# Altium schematic symbol library nRF52-Intro.SCHLIB: 84 symbols (part 1 of 2)
Pins are listed as number, name and electrical type; pins without a type are passive.

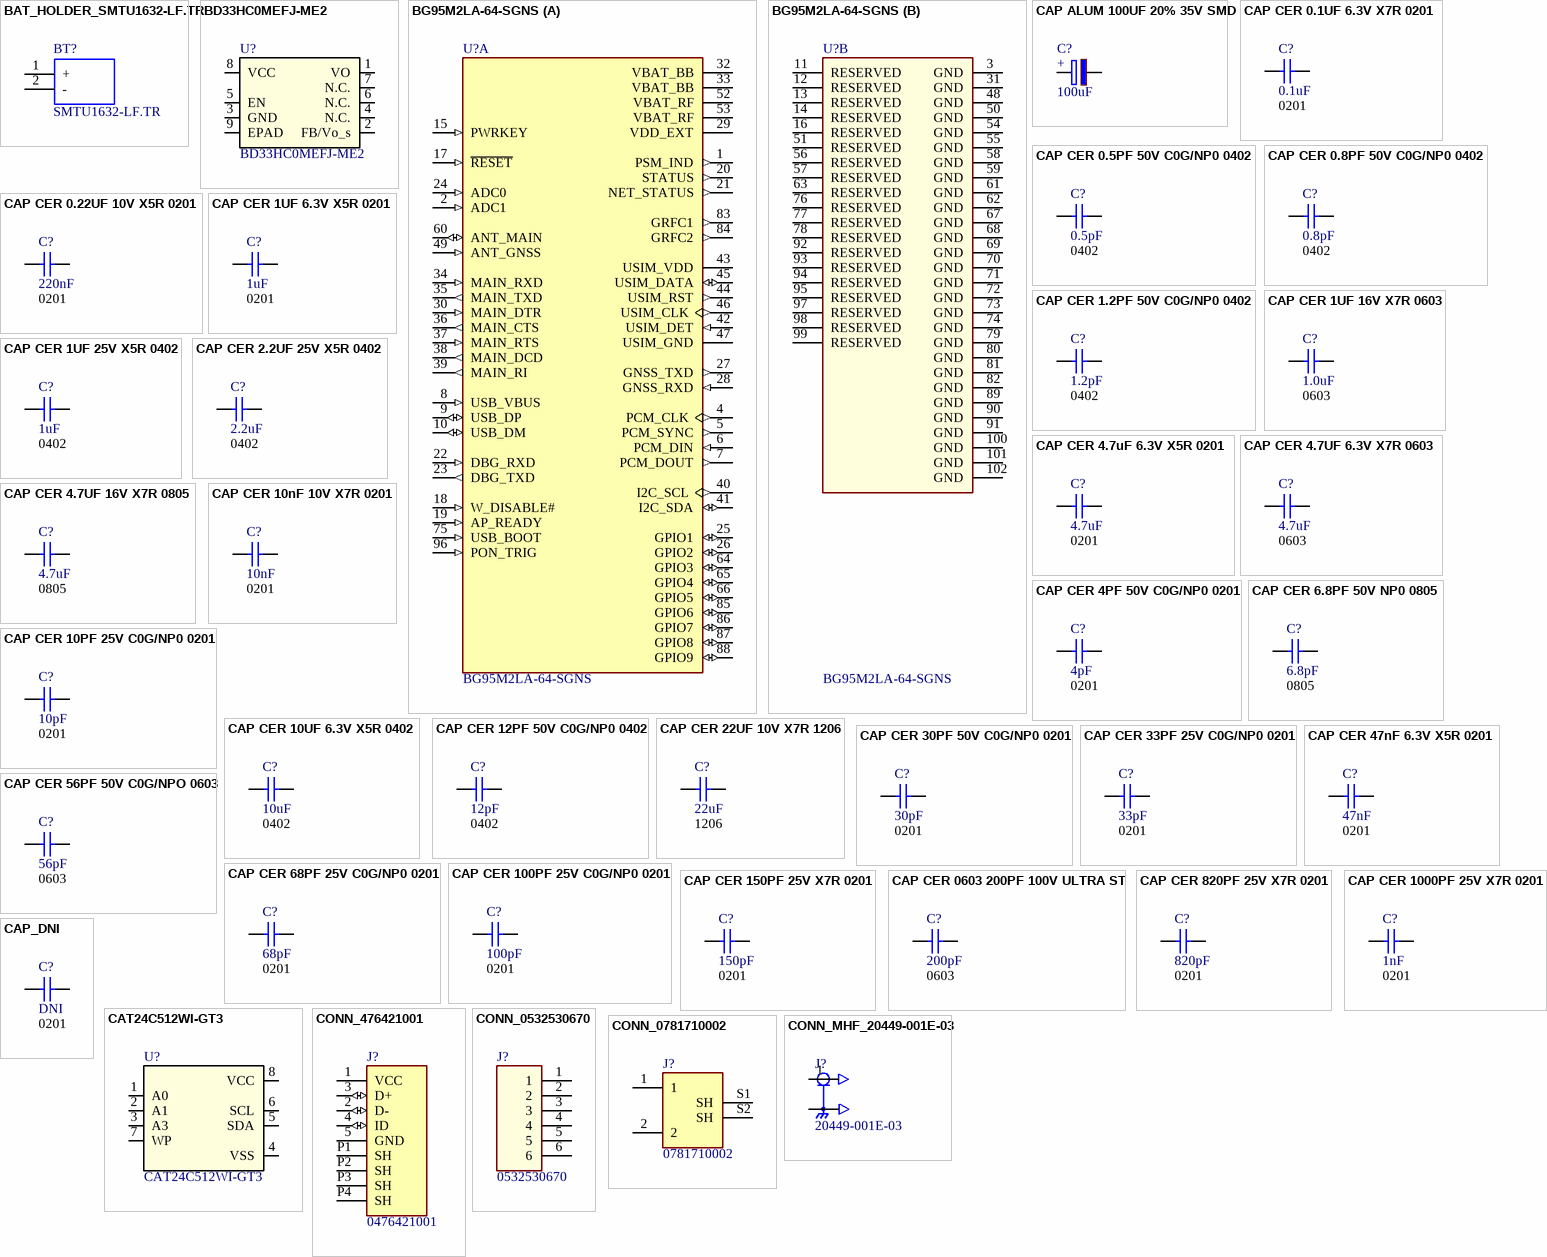
[diagram p0: symbols BAT_HOLDER_SMTU1632-LF.TR to CONN_MHF_20449-001E-03]

## BAT_HOLDER_SMTU1632-LF.TR
designator BT?, comment SMTU1632-LF.TR
Surface Mount CR1632 Battery Holder Tape and Reel; Manufacturer: Renata; Number of Batteries: 1; Supplier 1: Mouser; Manufacturer Part Number: SMTU1632-LF.TR; RoHS: Yes; Category: Batteries and Accessories; Stock 1: 5062; Pricing 1: 1=0.96000, 10=0.90800, 50=0.87000, 100=0.80800, 1000=0.80800, 10000=0.80800 (USD); Mount: Surface Mount; Contact Plating: Nickel; Material: Polymer,Liquid Crystal Polymer; Package Quantity: 520; Termination: SMD/SMT; Packaging: Tape and Reel; Lead Free: Lead Free; ComponentLink1URL: http://www.mouser.com/ds/2/346/SMTU1632-LF-28666.pdf?src-supplier=Mouser; ComponentLink1Description: http://www.mouser.com/ds/2/346/SMTU1632-LF-28666.pdf?src-supplier=Mouser; ComponentLink2URL: http://www.renata.com/cms/fileadmin/downloads/designersguide/DesignersGuide-2011_Battery_Holders.pdf?src-supplier=Future+Electronics; ComponentLink2Description: http://www.renata.com/cms/fileadmin/downloads/designersguide/DesignersGuide-2011_Battery_Holders.pdf?src-supplier=Future+Electronics; Supplier Part Number 1: 614-SMTU1632-LF.TR
footprint SMTU1632LFTR
pins: 1 +, 2 -

## BD33HC0MEFJ-ME2
designator U?
LDO Regulator Pos 3.3V 1A Automotive 8-Pin HTSOP-J EP T/R; Manufacturer: Rohm; Dropout Voltage: 600mV; Number of Outputs: 1; Min Input Voltage: 4.5V; Max Input Voltage: 8V; Max Power Dissipation: 2.11W; Input Bias Current: 600uA; Output Type: Fixed; Supplier 1: Digi-Key; Manufacturer Part Number: BD33HC0MEFJ-ME2; RoHS: Yes; Category: Voltage Regulators - Linear; Stock 1: 1946; Pricing 1: 1=1.50000, 10=1.34500, 25=1.27640, 100=1.04830, 250=0.97996, 500=0.86602, 1000=0.68370 (USD); Mount: Surface Mount; Number of Pins: 8; Min Operating Temperature: -40°C; Max Operating Temperature: 105°C; Package Quantity: 1; Packaging: Tape and Reel; Max Output Current: 1A; Output Voltage: 3.3V; Output Current: 1A; Number of Regulators: 1; Nominal Output Voltage: 3.3V; REACH SVHC: Unknown; RoHS Compliant: Yes; ComponentLink1URL: https://datasheet.ciiva.com/29568/bdxxhc0mefj-m-e-29568538.pdf?src-supplier=Digi-Key; ComponentLink1Description: https://datasheet.ciiva.com/29568/bdxxhc0mefj-m-e-29568538.pdf?src-supplier=Digi-Key; ComponentLink2URL: https://datasheet.ciiva.com/29568/bdxxhc0mefj-m-e-29568539.pdf?src-supplier=Digi-Key; ComponentLink2Description: https://datasheet.ciiva.com/29568/bdxxhc0mefj-m-e-29568539.pdf?src-supplier=Digi-Key; ComponentLink3URL: https://datasheet.ciiva.com/29569/bdxxhc0mefj-m-e-29569161.pdf?src-supplier=Digi-Key; ComponentLink3Description: https://datasheet.ciiva.com/29569/bdxxhc0mefj-m-e-29569161.pdf?src-supplier=Digi-Key; ComponentLink4URL: https://datasheet.ciiva.com/48677/bdxxhc0mefj-m-e-48677678.pdf?src-supplier=Avnet; ComponentLink4Description: https://datasheet.ciiva.com/48677/bdxxhc0mefj-m-e-48677678.pdf?src-supplier=Avnet; Supplier Part Number 1: BD33HC0MEFJ-ME2CT-ND
footprint HTSOP-J8_ROM
pins: 1 VO, 2 FB/Vo_s, 3 GND, 4 N.C., 5 EN, 6 N.C., 7 N.C., 8 VCC, 9 EPAD

## BG95M2LA-64-SGNS
designator U?
RF TXRX MOD SMD; Manufacturer: Quectel Wireless Solutions; Supplier 1: Mouser; Manufacturer Part Number: BG95M2LA-64-SGNS; RoHS: No; Pricing 1: 1=32.33000, 10=27.72000, 50=22.01000, 100=21.35000, 1000=18.14000, 10000=18.14000 (USD); Supplier Part Number 1: 277-BG95M2LA-64-SGNS
footprint XCVR_BG95M2LA-64-SGNS
part A pins: 1 PSM_IND (out), 2 ADC1 (in), 4 PCM_CLK (out), 5 PCM_SYNC (out), 6 PCM_DIN (in), 7 PCM_DOUT (out), 8 USB_VBUS (in), 9 USB_DP (io), 10 USB_DM (io), 15 PWRKEY (in), 17 ~{RESET} (in), 18 W_DISABLE# (in), 19 AP_READY (in), 20 STATUS (out), 21 NET_STATUS (out), 22 DBG_RXD (in), 23 DBG_TXD (out), 24 ADC0 (in), 25 GPIO1 (io), 26 GPIO2 (io), 27 GNSS_TXD (out), 28 GNSS_RXD (in), 29 VDD_EXT (power), 30 MAIN_DTR (in), 32 VBAT_BB (power), 33 VBAT_BB (power), 34 MAIN_RXD (in), 35 MAIN_TXD (out), 36 MAIN_CTS (out), 37 MAIN_RTS (in), 38 MAIN_DCD (out), 39 MAIN_RI (out), 40 I2C_SCL (out), 41 I2C_SDA (io), 42 USIM_DET (in), 43 USIM_VDD (power), 44 USIM_RST (out), 45 USIM_DATA (io), 46 USIM_CLK (out), 47 USIM_GND (power), 49 ANT_GNSS (in), 52 VBAT_RF (power), 53 VBAT_RF (power), 60 ANT_MAIN (io), 64 GPIO3 (io), 65 GPIO4 (io), 66 GPIO5 (io), 75 USB_BOOT (in), 83 GRFC1 (out), 84 GRFC2 (out), 85 GPIO6 (io), 86 GPIO7 (io), 87 GPIO8 (io), 88 GPIO9 (io), 96 PON_TRIG (in)
part B pins: 3 GND (power), 11 RESERVED, 12 RESERVED, 13 RESERVED, 14 RESERVED, 16 RESERVED, 31 GND (power), 48 GND (power), 50 GND (power), 51 RESERVED, 54 GND (power), 55 GND (power), 56 RESERVED, 57 RESERVED, 58 GND (power), 59 GND (power), 61 GND (power), 62 GND (power), 63 RESERVED, 67 GND (power), 68 GND (power), 69 GND (power), 70 GND (power), 71 GND (power), 72 GND (power), 73 GND (power), 74 GND (power), 76 RESERVED, 77 RESERVED, 78 RESERVED, 79 GND (power), 80 GND (power), 81 GND (power), 82 GND (power), 89 GND (power), 90 GND (power), 91 GND (power), 92 RESERVED, 93 RESERVED, 94 RESERVED, 95 RESERVED, 97 RESERVED, 98 RESERVED, 99 RESERVED, 100 GND (power), 101 GND (power), 102 GND (power)

## CAP ALUM 100UF 20% 35V SMD
designator C?, comment Capacitance: 100uF  (hidden comment: 1000uF/35V)
Cap Aluminum Lytic 100uF 35V 20% (6.3 X 7.7mm) SMD 300mA 2000h 105C T/R; Manufacturer: Wurth Electronics; Manufacturer Part Number: 865080545012; Life (Hours): 2000Hour; Supplier 1: Digi-Key; RoHS: Yes; Category: Aluminum Electrolytic Capacitors; Stock 1: 74948; Pricing 1: 1=0.35000, 50=0.29700, 100=0.25800, 250=0.23000 (USD); Case/Package: Radial; Min Operating Temperature: -55°C; Max Operating Temperature: 105°C; Voltage Rating: 35V; Packaging: Cut Tape; Ripple Current (AC): 300mA; Voltage Rating (DC): 35V; Diameter: 6.3mm; Height: 7.7mm; REACH SVHC: Unknown; RoHS Compliant: Yes; ComponentLink1URL: http://www.farnell.com/datasheets/1880164.pdf?src-supplier=Farnell; ComponentLink1Description: http://www.farnell.com/datasheets/1880164.pdf?src-supplier=Farnell; ComponentLink2URL: http://www.farnell.com/datasheets/1880164.pdf?src-supplier=Element14; ComponentLink2Description: http://www.farnell.com/datasheets/1880164.pdf?src-supplier=Element14; ComponentLink3URL: http://www.farnell.com/datasheets/1880164.pdf?src-supplier=Newark; ComponentLink3Description: http://www.farnell.com/datasheets/1880164.pdf?src-supplier=Newark; ComponentLink4URL: https://katalog.we-online.de/pbs/datasheet/865080545012.pdf?src-supplier=Digi-Key; ComponentLink4Description: https://katalog.we-online.de/pbs/datasheet/865080545012.pdf?src-supplier=Digi-Key; Supplier Part Number 1: 732-8511-1-ND; Value: 1000uF/35V
footprint CAP_POL_660X660X770
pins: NEG, POS
text: +

## CAP CER 0.1UF 6.3V X7R 0201
designator C?, comment 0.1uF  Package: 0201
CAP CER 0.1UF 6.3V X7R 0201; Manufacturer Part Number: CC0201KRX7R5BB104; Manufacturer: YAGEO; Supplier Part Number 1: 13-CC0201KRX7R5BB104CT-ND; Height: 0.33mm; Supplier 1: Digi-Key; value: 0.1uF
footprint CAPC0603X33N
footprint CAPC1005X55USR (Capacitor, Chip; 1.00 mm L X 0.50 mm W X 0.55 mm H body)
footprint CAPC1005X55USR (Capacitor, Chip; 1.00 mm L X 0.50 mm W X 0.55 mm H body)
footprint CAPC1005X55USR (Capacitor, Chip; 1.00 mm L X 0.50 mm W X 0.55 mm H body)
pins: 1, 2

## CAP CER 0.5PF 50V C0G/NP0 0402
designator C?, comment 0.5pF  Package: 0402
CAP CER 0.5PF 50V C0G/NP0 0402; Manufacturer Part Number: GJM1555C1HR50WB01D; Manufacturer: Murata Electronics; Supplier Part Number 1: 490-11250-1-ND; Height: 0.55mm; Supplier 1: Digi-Key; value: 0.5pF
footprint CAPC1005X55USR (Capacitor, Chip; 1.00 mm L X 0.50 mm W X 0.55 mm H body)
pins: 1, 2

## CAP CER 0.8PF 50V C0G/NP0 0402
designator C?, comment 0.8pF  Package: 0402
CAP CER 0.8PF 50V C0G/NP0 0402; Manufacturer Part Number: GRM1555C1HR80WA01D; Manufacturer: Murata Electronics; Supplier Part Number 1: 490-6270-1-ND; Height: 0.55mm; Supplier 1: Digi-Key; value: 0.8pF
footprint CAPC1005X55USR (Capacitor, Chip; 1.00 mm L X 0.50 mm W X 0.55 mm H body)
pins: 1, 2

## CAP CER 0.22UF 10V X5R 0201
designator C?, comment 220nF  Package: 0201
CAP CER 0.22UF 10V X5R 0201; Manufacturer Part Number: GRM033R61A224ME90D; Manufacturer: Murata Electronics; Supplier Part Number 1: 490-9984-1-ND; Height: 0.33mm; Supplier 1: Digi-Key; value: 220nF
footprint CAPC0603X33N
pins: 1, 2

## CAP CER 1.2PF 50V C0G/NP0 0402
designator C?, comment 1.2pF  Package: 0402
CAP CER 1.2PF 50V C0G/NP0 0402; Manufacturer Part Number: GCM1555C1H1R2BA16D; Manufacturer: Murata Electronics; Supplier Part Number 1: 490-16453-1-ND; Height: 0.55mm; Supplier 1: Digi-Key; value: 1.2pF
footprint CAPC1005X55USR (Capacitor, Chip; 1.00 mm L X 0.50 mm W X 0.55 mm H body)
pins: 1, 2

## CAP CER 1UF 6.3V X5R 0201
designator C?, comment 1uF  Package: 0201
CAP CER 1UF 6.3V X5R 0201; Manufacturer Part Number: CC0201MPX5R5BB105; Manufacturer: YAGEO; Supplier Part Number 1: 13-CC0201MPX5R5BB105CT-ND; Height: 0.35mm; Supplier 1: Digi-Key; value: 1uF
footprint CAPC0603X33N
pins: 1, 2

## CAP CER 1UF 16V X7R 0603
designator C?, comment 1.0uF  Package: 0603
CAP CER 1UF 16V X7R 0603; Manufacturer Part Number: C0603C105K4RAC7867; Manufacturer: KEMET; Supplier Part Number 1: 399-C0603C105K4RAC7867CT-ND; Height: 0.9mm; Supplier 1: Digi-Key; value: 1.0uF
footprint CAPC1608 (C0603)
pins: 1, 2

## CAP CER 1UF 25V X5R 0402
designator C?, comment 1uF  Package: 0402
CAP CER 1UF 25V X5R 0402; Manufacturer Part Number: GRM155C81E105ME11J; Manufacturer: Murata Electronics; Supplier Part Number 1: 490-GRM155C81E105ME11JCT-ND; Height: 0.6mm; Supplier 1: Digi-Key; value: 1uF
footprint CAPC1005X55USR (Capacitor, Chip; 1.00 mm L X 0.50 mm W X 0.55 mm H body)
pins: 1, 2

## CAP CER 2.2UF 25V X5R 0402
designator C?, comment 2.2uF  Package: 0402
CAP CER 2.2UF 25V X5R 0402; Manufacturer Part Number: GRM155R61E225ME15D; Manufacturer: Murata Electronics; Supplier Part Number 1: 490-10457-1-ND; Height: 0.55mm; Supplier 1: Digi-Key; value: 2.2uF
footprint CAPC1005X55USR (Capacitor, Chip; 1.00 mm L X 0.50 mm W X 0.55 mm H body)
pins: 1, 2

## CAP CER 4.7uF 6.3V X5R 0201
designator C?, comment 4.7uF  Package: 0201
CAP CER 4.7uF 6.3V X5R 0201; Manufacturer Part Number: GRM035R60J475ME15J; Manufacturer: Murata Electronics; Supplier Part Number 1: 490-GRM035R60J475ME15JCT-ND; Height: 0.55mm; Supplier 1: Digi-Key; value: 4.7uF
footprint CAPC0603X55N
pins: 1, 2

## CAP CER 4.7UF 6.3V X7R 0603
designator C?, comment 4.7uF  Package: 0603
CAP CER 4.7UF 6.3V X7R 0603; Manufacturer Part Number: JMK107BB7475KA-T; Manufacturer: Taiyo Yuden; Supplier Part Number 1: 587-5870-1-ND; Height: 1.0mm; Supplier 1: Digi-Key; value: 4.7uF
footprint CAPC1608 (C0603)
pins: 1, 2

## CAP CER 4.7UF 16V X7R 0805
designator C?, comment 4.7uF  Package: 0805
CAP CER 4.7UF 16V X7R 0805; Manufacturer Part Number: C0805C475J4RACAUTO7210; Manufacturer: KEMET; Supplier Part Number 1: 80-C0805C475J4RAUTLR; Height: 1.4mm; Supplier 1: Mouser; value: 4.7uF
footprint CAPC2012X145USR (Capacitor, Chip; 2.00 mm L X 1.25 mm W X 1.45 mm H body)
pins: 1, 2

## CAP CER 4PF 50V C0G/NP0 0201
designator C?, comment 4pF  Package: 0201
CAP CER 4PF 50V C0G/NP0 0201; Manufacturer Part Number: GRM0335C1H4R0BA01D; Manufacturer: Murata Electronics; Supplier Part Number 1: 490-12684-1-ND; Height: 0.33mm; Supplier 1: Digi-Key; value: 4pF
footprint CAPC0603X33N
pins: 1, 2

## CAP CER 6.8PF 50V NP0 0805
designator C?, comment 6.8pF  Package: 0805
CAP CER 6.8PF 50V NP0 0805; Manufacturer Part Number: 08055A6R8GAT2A; Manufacturer: KYOCERA AVX; Supplier Part Number 1: 581-08055A6R8GAT2A; Supplier 1: Mouser; value: 6.8pF
footprint CAPC2012X145USR (Capacitor, Chip; 2.00 mm L X 1.25 mm W X 1.45 mm H body)
pins: 1, 2

## CAP CER 10nF 10V X7R 0201
designator C?, comment 10nF  Package: 0201
CAP CER 10nF 10V X7R 0201; Manufacturer Part Number: GCM033R71A103MA03D; Manufacturer: Murata Electronics; Supplier Part Number 1: 81-GCM033R71A103MA3D; Height: 0.33mm; Supplier 1: Mouser; value: 10nF
footprint CAPC0603X33N
pins: 1, 2

## CAP CER 10PF 25V C0G/NP0 0201
designator C?, comment 10pF  Package: 0201
CAP CER 10PF 25V C0G/NP0 0201; Manufacturer Part Number: GCM0335C1E100JA16D; Manufacturer: Murata Electronics; Supplier Part Number 1: 490-GCM0335C1E100JA16DCT-ND; Height: 0.33mm; Supplier 1: Digi-Key; value: 10pF
footprint CAPC0603X33N
pins: 1, 2

## CAP CER 10UF 6.3V X5R 0402
designator C?, comment 10uF  Package: 0402
CAP CER 10UF 6.3V X5R 0402; Manufacturer Part Number: GRM155R60J106ME15D; Manufacturer: Murata Electronics; Supplier Part Number 1: 490-13238-1-ND; Height: 0.65mm; Supplier 1: Digi-Key; value: 10uF
footprint CAPC1005X65USR (Capacitor, Chip; 1.00 mm L X 0.50 mm W X 0.55 mm H body)
pins: 1, 2

## CAP CER 12PF 50V C0G/NP0 0402
designator C?, comment 12pF  Package: 0402
CAP CER 12PF 50V C0G/NP0 0402; Manufacturer Part Number: CC0402GRNPO9BN120; Manufacturer: YAGEO; Supplier Part Number 1: 311-3609-1-ND; Height: 0.55mm; Supplier 1: Digi-Key; value: 12pF
footprint CAPC1005X55USR (Capacitor, Chip; 1.00 mm L X 0.50 mm W X 0.55 mm H body)
pins: 1, 2

## CAP CER 22UF 10V X7R 1206
designator C?, comment 22uF  Package: 1206
CAP CER 22UF 10V X7R 1206; Manufacturer Part Number: CL31B226MPHNNNE; Manufacturer: Samsung Electro-Mechanics; Supplier Part Number 1: 1276-3148-1-ND; Height: 1.80mm; Supplier 1: Digi-Key; value: 22uF
footprint CAPC3216X180N
pins: 1, 2

## CAP CER 30PF 50V C0G/NP0 0201
designator C?, comment 30pF  Package: 0201
CAP CER 30PF 50V C0G/NP0 0201; Manufacturer Part Number: GRM0335C1H300JA01D; Manufacturer: Murata Electronics; Supplier Part Number 1: 490-11324-1-ND; Height: 0.33mm; Supplier 1: Digi-Key; value: 30pF
footprint CAPC0603X33N
pins: 1, 2

## CAP CER 33PF 25V C0G/NP0 0201
designator C?, comment 33pF  Package: 0201
CAP CER 33PF 25V C0G/NP0 0201; Manufacturer Part Number: GRM0335C1E330FA01D; Manufacturer: Murata Electronics; Supplier Part Number 1: 490-14546-1-ND; Height: 0.33mm; Supplier 1: Digi-Key; value: 33pF
footprint CAPC0603X33N
pins: 1, 2

## CAP CER 47nF 6.3V X5R 0201
designator C?, comment 47nF  Package: 0201
CAP CER 47nF 6.3V X5R 0201; Manufacturer Part Number: GRM033R60J473ME19D; Manufacturer: Murata Electronics; Supplier Part Number 1: 81-GRM033R60J473ME9D; Height: 0.33mm; Supplier 1: Mouser; value: 47nF
footprint CAPC0603X33N
pins: 1, 2

## CAP CER 56PF 50V C0G/NPO 0603
designator C?, comment 56pF  Package: 0603
CAP CER 56PF 50V C0G/NPO 0603; Manufacturer Part Number: CC0603GRNPO9BN560; Manufacturer: YAGEO; Supplier Part Number 1: 311-3936-1-ND; Height: 0.9mm; Supplier 1: Digi-Key; value: 56pF
footprint CAPC1608 (C0603)
pins: 1, 2

## CAP CER 68PF 25V C0G/NP0 0201
designator C?, comment 68pF  Package: 0201
CAP CER 68PF 25V C0G/NP0 0201; Manufacturer Part Number: GRM0335C1E680GA01D; Manufacturer: Murata Electronics; Supplier Part Number 1: 81-GRM0335C1E680GA1D; Height: 0.33mm; Supplier 1: Mouser; value: 68pF
footprint CAPC0603X33N
pins: 1, 2

## CAP CER 100PF 25V C0G/NP0 0201
designator C?, comment 100pF  Package: 0201
CAP CER 100PF 25V C0G/NP0 0201; Manufacturer Part Number: GRM0335C1E101GA01D; Manufacturer: Murata Electronics; Supplier Part Number 1: 490-17802-1-ND; Height: 0.33mm; Supplier 1: Digi-Key; value: 100pF
footprint CAPC0603X33N
pins: 1, 2

## CAP CER 150PF 25V X7R 0201
designator C?, comment 150pF  Package: 0201
CAP CER 150PF 25V X7R 0201; Manufacturer Part Number: GCM033R71E151KA03D; Manufacturer: Murata Electronics; Supplier Part Number 1: 490-17743-1-ND; Height: 0.33mm; Supplier 1: Digi-Key; value: 150pF
footprint CAPC0603X33N
pins: 1, 2

## CAP CER 0603 200PF 100V ULTRA ST
designator C?, comment 200pF  Package: 0603
CAP CER 0603 200PF 100V ULTRA ST; Manufacturer Part Number: C0603C201G1HACAUTO; Manufacturer: KEMET; Supplier Part Number 1: 399-C0603C201G1HACAUTOCT-ND; Height: 0.9mm; Supplier 1: Digi-Key; value: 200pF
footprint CAPC1608 (C0603)
pins: 1, 2

## CAP CER 820PF 25V X7R 0201
designator C?, comment 820pF  Package: 0201
CAP CER 820PF 25V X7R 0201; Manufacturer Part Number: CC0201KRX7R8BB821; Manufacturer: YAGEO; Supplier Part Number 1: 311-3698-1-ND; Height: 0.33mm; Supplier 1: Digi-Key; value: 820pF
footprint CAPC0603X33N
pins: 1, 2

## CAP CER 1000PF 25V X7R 0201
designator C?, comment 1nF  Package: 0201
CAP CER 1000PF 25V X7R 0201; Manufacturer Part Number: CC0201JRX7R8BB102; Manufacturer: YAGEO; Supplier Part Number 1: 311-3685-1-ND; Height: 0.33mm; Supplier 1: Digi-Key; value: 1nF
footprint CAPC0603X33N
pins: 1, 2

## CAP_DNI
designator C?, comment DNI  Package: 0201
Supplier 1: Digi-Key; value: DNI
footprint CAPC0603X33N
pins: 1, 2

## CAT24C512WI-GT3
designator U?
IC EEPROM 512KBIT 1MHZ 8SOIC; Manufacturer: ON Semiconductor; Frequency: 100kHz; Max Supply Voltage: 5.5V; Min Supply Voltage: 1.8V; Nominal Supply Current: 2.5mA; Interface: I2C,Serial,2-Wire; Access Time: 3500ns; Density: 512Kb; Max Frequency: 400kHz; Organization: 32KX8; Access Time-Max: 900ns; Write Protection: YES; Number of Words: 64000; Operating Supply Voltage: 5V; Write Cycle Time-Max (tWC): 5ms; Supplier 1: Mouser; Manufacturer Part Number: CAT24C512WI-GT3; RoHS: Yes; Category: EEPROM; Stock 1: 254725; Pricing 1: 1=0.68000, 10=0.62300, 50=0.61200, 100=0.54700, 1000=0.51600, 10000=0.50800 (USD); Mount: Surface Mount; Case/Package: SOIC; Number of Pins: 8; Contact Plating: Gold; Min Operating Temperature: -40°C; Max Operating Temperature: 85°C; Packaging: Tape and Reel; Package Quantity: 1; Memory Type: EEPROM; Series: -; Supply Current: 2.5mA; Radiation Hardening: No; Lead Free: Lead Free; RoHS Compliant: Yes; ComponentLink1URL: https://datasheet.ciiva.com/22618/1674429-22618480.pdf?src-supplier=Element14; ComponentLink1Description: https://datasheet.ciiva.com/22618/1674429-22618480.pdf?src-supplier=Element14; Supplier Part Number 1: 863-CAT24C512WI-GT3; Memory Size: 512Kb; Supply Voltage-Nom: 5.5V; Length: 5mm; Width: 4mm; Height: 1.5mm; REACH SVHC: No SVHC; Halogen Free: Halogen Free; ComponentLink2URL: https://datasheet.ciiva.com/25627/0900766b810de298-25627756.pdf?src-supplier=RSComponents; ComponentLink2Description: https://datasheet.ciiva.com/25627/0900766b810de298-25627756.pdf?src-supplier=RSComponents
footprint SOIC-8
pins: 1 A0 (io), 2 A1 (io), 3 A3 (io), 4 VSS, 5 SDA, 6 SCL, 7 WP, 8 VCC (power)

## CONN_476421001
designator J?, comment 0476421001
Micro-USB B Receptacle, Mid-Mount, with Through Hole Solder Tab, Gold (Au) Flash Plating, without Mylar, Lead-Free; Manufacturer: Molex; Number of Terminals/Pins: 5; Number of Ports: 1; Max Voltage Rating (AC): 30V; Gender: Female; Pitch: 0.65mm; Supplier 1: Digi-Key; Manufacturer Part Number: 0476421001; RoHS: Yes; Category: Connectors; Stock 1: 15759; Pricing 1: 1=0.95000, 10=0.78400, 100=0.65330 (USD); Contact Material: Copper Alloy; Contact Plating: Gold; Housing Material: Thermoplastic; Min Operating Temperature: -30°C; Max Operating Temperature: 85°C; Orientation: Right Angle; Packaging: Tape and Reel; Termination: Solder; Length: 10.2mm; Depth: 7.23mm; Supplier Part Number 1: WM26410CT-ND
footprint MOLEX_476421001
pins: 1 VCC (power), 2 D- (io), 3 D+ (io), 4 ID (io), 5 GND (power), P1 SH (power), P2 SH (power), P3 SH (power), P4 SH (power)

## CONN_0532530670
designator J?, comment 0532530670
CONN HEADER VERT 6POS 2MM; Manufacturer: Molex; Contact Resistance: 20mR; Number of Positions: 6; Max Voltage Rating (DC): 125V; Gender: Male; Connector Type: Male Pin; Pitch: 0.079inch; Supplier 1: Digi-Key; Manufacturer Part Number: 0532530670; RoHS: Yes; Category: Headers and Wire Housings; Stock 1: 74410; Pricing 1: 1=0.47000, 10=0.38400, 80=0.28188, 945=0.22418, 4900=0.19215, 10000=0.17934 (USD); Mount: Through Hole; Contact Plating: Tin; Contact Material: Brass; Color: Natural; Housing Color: Natural; Housing Material: Nylon; Min Operating Temperature: -40°C; Max Operating Temperature: 105°C; Number of Rows: 1; Packaging: Tray; Package Quantity: 2000; Termination: Solder; Number of Contacts: 6; Orientation: Straight; Series: Micro-Latch™ 53253; Max Voltage Rating (AC): 125V; Contact Type: Male Pin; Length: 14mm; Depth: 3.65mm; Contact Mating Length: 0.13inch; RoHS Compliant: Yes; Supplier Part Number 1: WM19008-ND
footprint MOLEX_0532530670
pins: 1, 2, 3, 4, 5, 6

## CONN_0781710002
designator J?, comment 0781710002
Pico-EZmate Wire-to-Board Header Vertical Housing Height 1.55mm with Side Friction Locks 2 Circuits; Manufacturer: Molex; Contact Resistance: 20mR; Number of Positions: 2; Max Voltage Rating (DC): 50V; Connector Type: Plug; Pitch: 1.2mm; Supplier 1: Digi-Key; Manufacturer Part Number: 0781710002; RoHS: Yes; Category: Headers and Wire Housings; Stock 1: 156886; Pricing 1: 1=0.40000, 10=0.32600, 100=0.23890, 1000=0.19000 (USD); Mount: Surface Mount; Contact Plating: Gold; Contact Material: Copper Alloy; Housing Material: Polymer; Color: Black; Housing Color: Black; Min Operating Temperature: -25°C; Max Operating Temperature: 85°C; Number of Rows: 1; Packaging: Tape and Reel; Termination: Solder; Number of Contacts: 2; Orientation: Straight; Series: Pico-EZmate™ 78171; Fastening Type: Friction; Max Voltage Rating (AC): 50V; Contact Type: Tab; Length: 4.2mm; Depth: 4.5mm; Radiation Hardening: No; RoHS Compliant: Yes; ComponentLink1URL: https://datasheet.ciiva.com/738/781710002-sd-738384.pdf?src-supplier=Digi-Key; ComponentLink1Description: https://datasheet.ciiva.com/738/781710002-sd-738384.pdf?src-supplier=Digi-Key; ComponentLink2URL: https://datasheet.ciiva.com/738/781710002-sd-738387.pdf?src-supplier=Digi-Key; ComponentLink2Description: https://datasheet.ciiva.com/738/781710002-sd-738387.pdf?src-supplier=Digi-Key; ComponentLink3URL: https://datasheet.ciiva.com/738/781710002-sd-738390.pdf?src-supplier=Digi-Key; ComponentLink3Description: https://datasheet.ciiva.com/738/781710002-sd-738390.pdf?src-supplier=Digi-Key; Supplier Part Number 1: WM4459CT-ND
footprint MOLEX_0781710002
pins: 1, 2, S1 SH, S2 SH

## CONN_MHF_20449-001E-03
designator J?, comment 20449-001E-03
Small form factor with big performance through 6 GHz; Manufacturer: I-PEX; Supplier 1: Digi-Key; Manufacturer Part Number: 20449-001E-03; RoHS: No; Category: RF / Coaxial Connectors; Stock 1: 10235; Pricing 1: 1=1.77000, 10=1.54300, 25=1.47720, 50=1.44440, 100=1.37860, 250=1.24736, 500=1.14888, 1000=0.98475, 2500=0.91910 (USD); RoHS Compliant: No; Supplier Part Number 1: 3508-20449-001E-03CT-ND
footprint IPEX_20449-001E-03
pins: 1 SIGNAL, 2 GND (power), 3 GND (power), 4 GND (power)

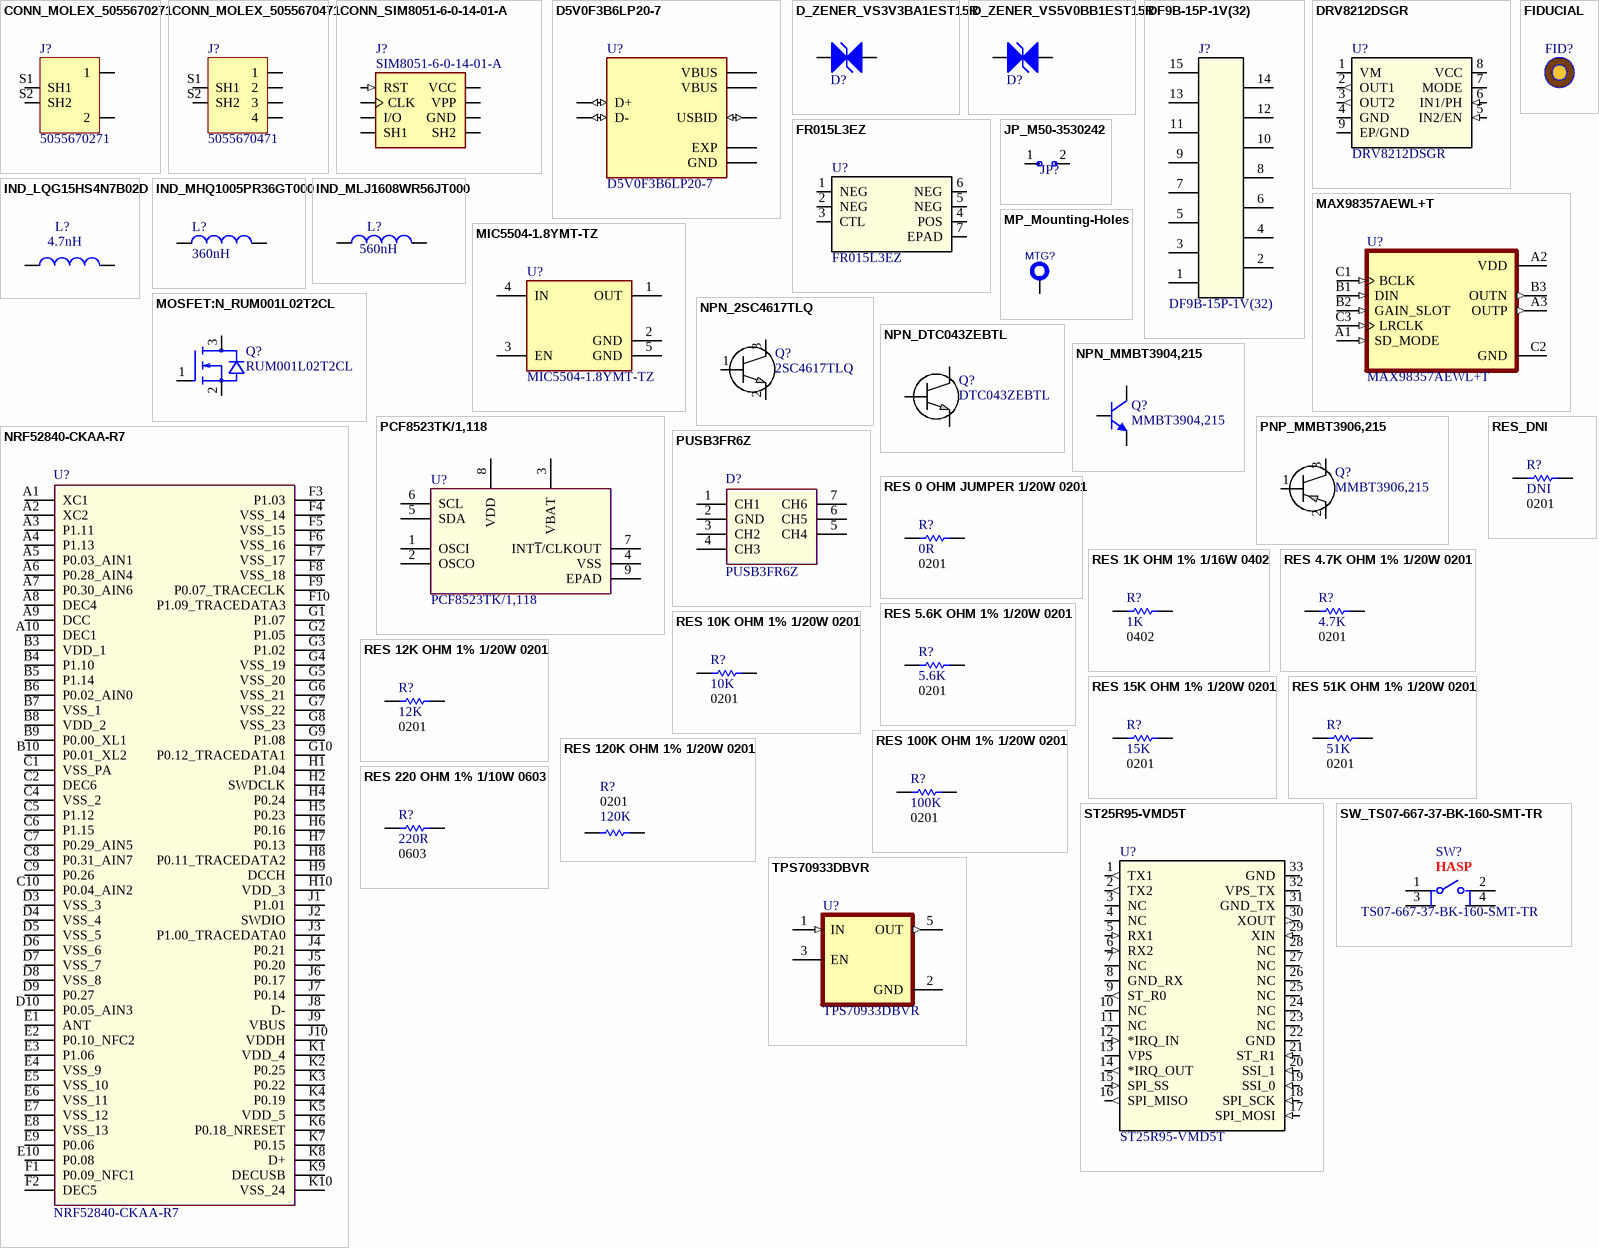
[diagram p1: symbols CONN_MOLEX_5055670271 to TPS70933DBVR]

## CONN_MOLEX_5055670271
designator J?, comment 5055670271
Conn Shrouded Header (4 Sides) HDR 2 POS 1.25mm Solder RA Side Entry SMD Micro-Lock PLUS T/R; Manufacturer: Molex; Connector Type: Header,Male Pin; Number of Positions: 2; Supplier 1: Digi-Key; Manufacturer Part Number: 5055670271; RoHS: Yes; Category: Headers and Wire Housings; Stock 1: 43149; Pricing 1: 1=0.95000, 10=0.78600, 100=0.65500 (USD); Supplier Part Number 1: WM17038CT-ND; Mount: Surface Mount; Contact Plating: Tin; Contact Material: Brass; Contact Shape: Square; Insulation Material: Nylon; Insulation Color: Black; Min Operating Temperature: -40°C; Max Operating Temperature: 105°C; Fastening Type: Ramp; Packaging: Cut Tape; Number of Rows: 1; Termination: Solder; Flammability Rating: UL94 V-0; ComponentLink1URL: https://www.molex.com/pdm_docs/sd/5055670271_sd.pdf?src-supplier=Digi-Key; ComponentLink1Description: https://www.molex.com/pdm_docs/sd/5055670271_sd.pdf?src-supplier=Digi-Key
footprint MOLEX_5055670271
pins: 1, 2, S1 SH1, S2 SH2

## CONN_MOLEX_5055670471
designator J?, comment 5055670471
Conn Shrouded Header (4 Sides) HDR 4 POS 1.25mm Solder RA Side Entry SMD Micro-Lock PLUS T/R; Manufacturer: Molex; Manufacturer Part Number: 505567-0471; Supplier 1: Digi-Key; RoHS: No; Category: Headers and Wire Housings; Stock 1: 125448; Pricing 1: 1=1.03000, 10=0.85300, 100=0.71080 (USD); ComponentLink1URL: http://www.farnell.com/datasheets/2551042.pdf?src-supplier=Farnell; ComponentLink1Description: http://www.farnell.com/datasheets/2551042.pdf?src-supplier=Farnell; ComponentLink2URL: http://www.farnell.com/datasheets/2367565.pdf?src-supplier=Farnell; ComponentLink2Description: http://www.farnell.com/datasheets/2367565.pdf?src-supplier=Farnell; ComponentLink3URL: http://www.farnell.com/datasheets/2551042.pdf?src-supplier=Newark; ComponentLink3Description: http://www.farnell.com/datasheets/2551042.pdf?src-supplier=Newark; Supplier Part Number 1: WM17040CT-ND
footprint MOLEX_5055670471
pins: 1, 2, 3, 4, S1 SH1, S2 SH2

## CONN_SIM8051-6-0-14-01-A
designator J?, comment SIM8051-6-0-14-01-A
Push-Pull 6P 1.35mmH 3µ" gold with peg and logo Nano SIM Card Connector; Manufacturer: Global Connector Technology; Supplier 1: Newark; Manufacturer Part Number: SIM8051-6-0-14-01-A; RoHS: No; Category: Memory Connectors; Stock 1: 710; Pricing 1: 1=0.55300, 10=0.51300 (USD); ComponentLink1URL: http://www.farnell.com/datasheets/2343023.pdf?src-supplier=Farnell; ComponentLink1Description: http://www.farnell.com/datasheets/2343023.pdf?src-supplier=Farnell; ComponentLink2URL: http://www.farnell.com/datasheets/2343023.pdf?src-supplier=Newark; ComponentLink2Description: http://www.farnell.com/datasheets/2343023.pdf?src-supplier=Newark; Supplier Part Number 1: 49Y1714
footprint GCT_SIM8051-6-0-14-01-X-REVD
pins: C1 VCC (power), C2 RST (in), C3 CLK, C5 GND (power), C6 VPP (power), C7 I/O, SH1 (power), SH2 (power)

## D5V0F3B6LP20-7
designator U?
USB2.0 and VBUS TVS DIODE ARRAY, 0.4 pF, RoHS; Manufacturer: Diodes; Number of Bidirectional Channels: 3; Reverse Standoff Voltage: 5.5V; Min Breakdown Voltage: 6V; Clamping Voltage: 14V; Power Line Protection: No; Peak Pulse Current: 1A; Supplier 1: Digi-Key; Manufacturer Part Number: D5V0F3B6LP20-7; RoHS: Yes; Category: TVS Diodes; Stock 1: 10970; Pricing 1: 1=0.59000, 10=0.52000, 100=0.39850, 500=0.31500, 1000=0.25200 (USD); Mount: Surface Mount; Min Operating Temperature: -65°C; Max Operating Temperature: 150°C; Packaging: Tape and Reel; Resistor Type: Zener; RoHS Compliant: Yes; ComponentLink1URL: http://www.mouser.com/ds/2/115/D5V0F3B6LP20-765661.pdf?src-supplier=Mouser; ComponentLink1Description: http://www.mouser.com/ds/2/115/D5V0F3B6LP20-765661.pdf?src-supplier=Mouser; ComponentLink2URL: https://www.diodes.com/assets/Datasheets/D5V0F3B6LP20.pdf?src-supplier=Digi-Key; ComponentLink2Description: https://www.diodes.com/assets/Datasheets/D5V0F3B6LP20.pdf?src-supplier=Digi-Key; Supplier Part Number 1: D5V0F3B6LP20-7DICT-ND
footprint SON65P200X200X63-7N
pins: 1 VBUS (power), 2 VBUS (power), 3 GND (power), 4 USBID (io), 5 D- (io), 6 D+ (io), 7 EXP

## D_ZENER_VS3V3BA1EST15R
designator D?, comment VS3V3BA1EST15R  (value not drawn)
ESD Suppressor Diode TVS Bi-Dir 3.3V 2-Pin Case 0201(0603Metric) T/R; Manufacturer: Rohm; Number of Bidirectional Channels: 1; Min Breakdown Voltage: 4V; Clamping Voltage: 8V; Peak Pulse Current: 3.5A; Peak Pulse Power: 28W; Power Line Protection: No; Supplier 1: Digi-Key; Manufacturer Part Number: VS3V3BA1EST15R; RoHS: Yes; Category: TVS Diodes; Stock 1: 24268; Pricing 1: 1=0.32000, 10=0.26500, 100=0.14030, 500=0.09228, 1000=0.06276, 2000=0.05661, 5000=0.04922 (USD); Mount: Surface Mount; Case/Package: 0201; Case Code (Imperial): 0201; Case Code (Metric): 0603; Min Operating Temperature: -55°C; Max Operating Temperature: 150°C; Resistor Type: Zener; Packaging: Tape and Reel; Reverse Standoff Voltage: 3.3V; RoHS Compliant: Yes; ComponentLink1URL: http://rohmfs.rohm.com/en/products/databook/datasheet/discrete/diode/zener/vs3v3ba1es-e.pdf?src-supplier=Digi-Key; ComponentLink1Description: http://rohmfs.rohm.com/en/products/databook/datasheet/discrete/diode/zener/vs3v3ba1es-e.pdf?src-supplier=Digi-Key; ComponentLink2URL: http://rohmfs.rohm.com/en/techdata_basic/diode/taping/Taping_SMD0603_T15R-e.pdf?src-supplier=Digi-Key; ComponentLink2Description: http://rohmfs.rohm.com/en/techdata_basic/diode/taping/Taping_SMD0603_T15R-e.pdf?src-supplier=Digi-Key; Supplier Part Number 1: VS3V3BA1EST15RCT-ND
footprint DIO_0201_RB522
pins: 1 "Anode", 2 "Cathode"

## D_ZENER_VS5V0BB1EST15R
designator D?, comment VS5V0BB1EST15R  (value not drawn)
TVS DIODE 5VWM 11.4VC DSN0603-2; Manufacturer: Rohm; Number of Bidirectional Channels: 1; Reverse Standoff Voltage: 5V; Min Breakdown Voltage: 6V; Clamping Voltage: 11.4V; Peak Pulse Current: 2.2A; Peak Pulse Power: 25W; Power Line Protection: No; Supplier 1: Digi-Key; Manufacturer Part Number: VS5V0BB1EST15R; RoHS: Yes; Category: TVS Diodes; Stock 1: 6282; Pricing 1: 1=0.32000, 10=0.26500, 100=0.14030, 500=0.09228, 1000=0.06276, 2000=0.05661, 5000=0.04922 (USD); Mount: Surface Mount; Case/Package: 0201; Case Code (Imperial): 0201; Case Code (Metric): 0603; Min Operating Temperature: -55°C; Max Operating Temperature: 150°C; Resistor Type: Zener; Packaging: Tape and Reel; RoHS Compliant: Yes; ComponentLink1URL: http://rohmfs.rohm.com/en/products/databook/datasheet/discrete/diode/zener/vs5v0bb1es_e.pdf?src-supplier=Digi-Key; ComponentLink1Description: http://rohmfs.rohm.com/en/products/databook/datasheet/discrete/diode/zener/vs5v0bb1es_e.pdf?src-supplier=Digi-Key; Supplier Part Number 1: VS5V0BB1EST15RCT-ND
footprint DIO_0201_RB522
pins: 1 "Anode", 2 "Cathode"

## DF9B-15P-1V(32)
designator J?
Board-to-Board Connector (1-mm Pitch, 4.3-mm Height) - DF9 Series (HIROSE ELECTRIC); Number of Positions: 15; Current Rating: 500mA; Pitch: 1mm; Mated Stacking Heights: 4.3mm; Connector Type: Receptacle; Supplier 1: Digi-Key; Manufacturer: Hirose; Manufacturer Part Number: DF9B-15P-1V(32); RoHS: Yes; Category: Headers and Wire Housings; Stock 1: 1727; Pricing 1: 1=1.29000, 10=1.08900, 25=1.04440, 50=1.02220, 100=0.97770, 250=0.88880, 500=0.79992 (USD); Mount: Surface Mount; Contact Plating: Tin; Contact Material: Copper; Housing Color: Beige; Number of Rows: 2; Package Quantity: 1; Packaging: Tape and Reel; Termination: SMD/SMT; Number of Contacts: 15; Series: DF9; Lead Free: Lead Free; Flammability Rating: UL94 V-0; RoHS Compliant: Yes; ComponentLink1URL: https://datasheet.ciiva.com/16432/ed-df9-20080806-16432101.pdf?src-supplier=Future+Electronics; ComponentLink1Description: https://datasheet.ciiva.com/16432/ed-df9-20080806-16432101.pdf?src-supplier=Future+Electronics; ComponentLink2URL: https://datasheet.ciiva.com/5130/e54300012-5130812.pdf?src-supplier=Mouser; ComponentLink2Description: https://datasheet.ciiva.com/5130/e54300012-5130812.pdf?src-supplier=Mouser; Supplier Part Number 1: H10383CT-ND; Stack Height: 4.3mm
footprint CON_DF9-15P-1V(32)
footprint CON_DF9B-15P-1V(32) (Footprint not found)
pins: 1, 2, 3, 4, 5, 6, 7, 8, 9, 10, 11, 12, 13, 14, 15

## DRV8212DSGR
designator U?
12-V, 2-A Low voltage H-bridge motor driver 8-WSON -40 to 125; Manufacturer: Texas Instruments; Supplier 1: Mouser; Manufacturer Part Number: DRV8212DSGR; RoHS: No; Stock 1: 586; Pricing 1: 1=1.10000, 10=0.98600, 50=0.93500, 100=0.76800, 1000=0.50100, 10000=0.48400 (USD); RoHS Compliant: Yes; Supplier Part Number 1: 595-DRV8212DSGR
footprint WSON_212DSGR_TEX
pins: 1 VM, 2 OUT1 (out), 3 OUT2 (out), 4 GND, 5 IN2/EN (in), 6 IN1/PH (in), 7 MODE, 8 VCC (power), 9 EP/GND

## FIDUCIAL
designator FID?  (no BOM)
Fiducial with various available footprints
footprint FID_040
pins: FID (in)

## FR015L3EZ
designator U?
LOW SIDE REV BIAS POLAR PROTECT; Manufacturer: ON Semiconductor / Fairchild; Operating Supply Voltage: 8V; Clamping Voltage: 15V; Number of Circuits: 1; Breakdown Voltage: 14.5V; Polarity: Unidirectional; Peak Pulse Power: 2.4W; Voltage: 1.3V; Current: 8A; Supplier 1: Mouser; Manufacturer Part Number: FR015L3EZ; RoHS: Yes; Category: EMI / RFI Components; Stock 1: 21380; Pricing 1: 1=0.71000, 10=0.62700, 50=0.62700, 100=0.48000, 1000=0.30400, 10000=0.26700 (USD); Mount: Surface Mount; Number of Pins: 6; Weight: 0.03g; Min Operating Temperature: -55°C; Max Operating Temperature: 125°C; Packaging: Tape and Reel; Package Quantity: 3000; Working Voltage: 8V; Number of Channels: 1; Termination: SMD/SMT; Series: FR015; Number of Outputs: 1; Max Power Dissipation: 2.4W; Length: 2mm; Width: 2mm; Height: 0.725mm; Lead Free: Lead Free; RoHS Compliant: Yes; ComponentLink1URL: https://datasheet.ciiva.com/13084/fr015l3ez-113107-13084211.pdf?src-supplier=Mouser; ComponentLink1Description: https://datasheet.ciiva.com/13084/fr015l3ez-113107-13084211.pdf?src-supplier=Mouser; ComponentLink2URL: https://datasheet.ciiva.com/6702/fr015l3ez-6702465.pdf?src-supplier=Digi-Key; ComponentLink2Description: https://datasheet.ciiva.com/6702/fr015l3ez-6702465.pdf?src-supplier=Digi-Key; Supplier Part Number 1: 512-FR015L3EZ
footprint MLP6_2X2_ONS
pins: 1 NEG, 2 NEG, 3 CTL, 4 POS, 5 NEG, 6 NEG, 7 EPAD

## IND_LQG15HS4N7B02D
designator L?, comment 4.7nH
Inductor RF Chip Unshielded Multi-Layer 0.0047uH 0.1nH 100MHz 8Q-Factor Ceramic 0.7A 0.16Ohm DCR 0402 T/R; Manufacturer: Murata; Manufacturer Part Number: LQG15HS4N7B02D; Supplier 1: Mouser; RoHS: Yes; Category: Fixed Inductors; Stock 1: 10263; Pricing 1: 1=0.10000, 10=0.08800, 50=0.08800, 100=0.05800, 1000=0.04100, 10000=0.02800 (USD); RoHS Compliant: Yes; Supplier Part Number 1: 81-LQG15HS4N7B02D
footprint INDC1005X55N
pins: 1, 2

## IND_MHQ1005PR36GT000
designator L?, comment 360nH
Inductor for High Frequency Circuits Multilayer Ceramic 360nH 2-Pin SMD T/R; Manufacturer: TDK; Manufacturer Part Number: MHQ1005PR36GT000; Supplier 1: Digi-Key; RoHS: Yes; Category: Fixed Inductors; Stock 1: 4807; Pricing 1: 1=0.20000, 10=0.17800, 25=0.15800, 50=0.13420, 100=0.11850, 250=0.10860, 500=0.09872, 1000=0.08293, 2500=0.07108 (USD); RoHS Compliant: Yes; Supplier Part Number 1: 445-175484-1-ND
footprint INDC1006X60N
pins: 1, 2

## IND_MLJ1608WR56JT000
designator L?, comment 560nH
Ind Chip Shielded Multi-Layer 560nH 5% 25MHz 25Q-Factor Ferrite 400mA 0603 Paper T/R; Manufacturer: TDK; Manufacturer Part Number: MLJ1608WR56JT000; Saturation Current: 550mA; DC Resistance (DCR): 520mR; Self Resonant Frequency: 170MHz; Supplier 1: Digi-Key; RoHS: Yes; Category: Fixed Inductors; Stock 1: 37259; Pricing 1: 1=0.27000, 10=0.24200, 25=0.21200, 50=0.18180, 100=0.16660, 250=0.15152, 500=0.14240, 1000=0.10908 (USD); Mount: Surface Mount; Case/Package: 0603; Core Material: Ferrite; Case Code (Metric): 1608; Case Code (Imperial): 0603; Min Operating Temperature: -55°C; Max Operating Temperature: 125°C; Packaging: Cut Tape; Inductance: 560nH; Current Rating: 400mA; Shielding: Shielded; Test Frequency: 25MHz; Tolerance: 5%; Length: 0.063inch; Width: 0.031inch; Height - Seated (Max): 0.038inch; RoHS Compliant: Yes; ComponentLink1URL: https://product.tdk.com/info/en/catalog/datasheets/inductor_commercial_standard_mlj1608_en.pdf?src-supplier=Digi-Key; ComponentLink1Description: https://product.tdk.com/info/en/catalog/datasheets/inductor_commercial_standard_mlj1608_en.pdf?src-supplier=Digi-Key; Supplier Part Number 1: 445-174193-1-ND
footprint INDC1608X95N
pins: 1, 2

## JP_M50-3530242
designator JP?, comment M50-3530242  (value not drawn)
Conn Unshrouded Header HDR 2 POS 1.27mm Solder ST Thru-Hole Box; Manufacturer: Harwin; Supplier 1: Digi-Key; Manufacturer Part Number: M50-3530242; RoHS: Yes; Category: Headers and Wire Housings; Stock 1: 8798; Pricing 1: 1=0.15000, 10=0.11600, 100=0.08530, 500=0.07056, 1000=0.06174, 5000=0.05292, 10000=0.05145 (USD); ComponentLink1URL: https://cdn.harwin.com/pdfs/M50-353.pdf?src-supplier=Farnell; ComponentLink1Description: https://cdn.harwin.com/pdfs/M50-353.pdf?src-supplier=Farnell; ComponentLink2URL: https://cdn.harwin.com/pdfs/Harwin_PC_Connectors_Archer.pdf?src-supplier=Digi-Key; ComponentLink2Description: https://cdn.harwin.com/pdfs/Harwin_PC_Connectors_Archer.pdf?src-supplier=Digi-Key; ComponentLink3URL: https://cdn.harwin.com/pdfs/M50-353.pdf?src-supplier=Newark; ComponentLink3Description: https://cdn.harwin.com/pdfs/M50-353.pdf?src-supplier=Newark; Supplier Part Number 1: 952-3598-ND
footprint HDR2X1_1.27MM
pins: 1, 2

## MAX98357AEWL+T
designator U?
IC AUDIO AMP PCM D WLP; Manufacturer: Maxim; Voltage Gain: 15dB; Min Supply Voltage: 2.5V; Max Supply Voltage: 5.5V; Max Output Power: 3.2W; Power Supply Rejection Ratio (PSRR): 77dB; Max Power Dissipation: 1.096W; Max Output Current: 1.6A; Supplier 1: Mouser; Manufacturer Part Number: MAX98357AEWL+T; RoHS: Yes; Category: Amplifiers - Audio; Stock 1: 28757; Pricing 1: 1=2.69000, 10=2.42000, 50=2.29000, 100=1.99000, 1000=1.53000, 10000=1.47000 (USD); Mount: Surface Mount; Number of Pins: 9; Contact Plating: Copper,Tin,Silver; Min Operating Temperature: -40°C; Max Operating Temperature: 85°C; Packaging: Tape and Reel; Package Quantity: 2500; Radiation Hardening: No; RoHS Compliant: Yes; ComponentLink1URL: https://datasheet.ciiva.com/45423/max98357a-max98357b-45423932.pdf?src-supplier=Digi-Key; ComponentLink1Description: https://datasheet.ciiva.com/45423/max98357a-max98357b-45423932.pdf?src-supplier=Digi-Key; Supplier Part Number 1: 700-MAX98357AEWL+T
footprint BGA9N40P3X3_134X143X69N
pins: A1 SD_MODE (in), A2 VDD (power), A3 OUTP (out), B1 DIN (in), B2 GAIN_SLOT (in), B3 OUTN (out), C1 BCLK (in), C2 GND (power), C3 LRCLK (in)

## MIC5504-1.8YMT-TZ
designator U?
Single 300mA LDO with Enable Pull-Down & Auto Discharge 4 UDFN 1.01.0mm T/R RoHS Compliant: Yes; Manufacturer: Microchip; Output Voltage: 1.8V; Dropout Voltage: 160mV; Number of Regulators: 1; Min Current Limit: 400mA; Supplier 1: Mouser; Manufacturer Part Number: MIC5504-1.8YMT-TZ; RoHS: Yes; Category: Voltage Regulators - Linear; Stock 1: 18921; Pricing 1: 1=0.23000, 10=0.22300, 50=0.18100, 100=0.16500, 1000=0.16500, 10000=0.16400 (USD); Mount: Surface Mount; Min Operating Temperature: -40°C; Max Operating Temperature: 125°C; Packaging: Tape and Reel; Output Current: 300mA; RoHS Compliant: Yes; ComponentLink1URL: http://www.microchip.com/mymicrochip/filehandler.aspx?ddocname=en580292&src-supplier=Digi-Key; ComponentLink1Description: http://www.microchip.com/mymicrochip/filehandler.aspx?ddocname=en580292&src-supplier=Digi-Key; Supplier Part Number 1: 998-MIC5504-1.8YMTTZ
footprint TDFN4_1X1_MCH
pins: 1 OUT, 2 GND, 3 EN, 4 IN, 5 GND

## MOSFET:N_RUM001L02T2CL
designator Q?, comment RUM001L02T2CL
MOSFET N-CH 20V 0.1A VMT3; Manufacturer: Rohm; Rds On Max: 3.5R; Input Capacitance: 7.1pF; Continuous Drain Current (ID): 100mA; Max Power Dissipation: 150mW; Number of Channels: 1; Drain to Source Resistance: 2.5R; Gate to Source Voltage (Vgs): 8V; Fall Time: 38ns; Rise Time: 4ns; Turn-Off Delay Time: 20ns; Turn-On Delay Time: 5ns; FET Type: 1 N-Channel; Polarity: N-CHANNEL; Supplier 1: Digi-Key; Manufacturer Part Number: RUM001L02T2CL; RoHS: Yes; Category: MOSFETs; Stock 1: 979630; Pricing 1: 1=0.42000, 10=0.34300, 100=0.18180, 500=0.11962, 1000=0.08134, 2000=0.07337 (USD); Mount: Surface Mount; Case/Package: SOT-723; Number of Pins: 3; Contact Plating: Tin; Min Operating Temperature: -55°C; Max Operating Temperature: 150°C; Package Quantity: 1; Packaging: Tape and Reel; Drain to Source Voltage (Vdss): 20V; Drain to Source Breakdown Voltage: 20V; Series: -; Lead Free: Lead Free; RoHS Compliant: Yes; ComponentLink1URL: https://datasheet.ciiva.com/29755/rum001l02-29755909.pdf?src-supplier=Digi-Key; ComponentLink1Description: https://datasheet.ciiva.com/29755/rum001l02-29755909.pdf?src-supplier=Digi-Key; Supplier Part Number 1: RUM001L02T2CLCT-ND
footprint SOT-723
pins: 1 G, 2 S, 3 D

## MP_Mounting-Holes
designator MTG?  (no BOM)
=CurrentFootprint; B - Value: Not a Part; A - Level: 0
footprint MOUNTING_HOLE_3.2MM (NPTH 2.2mm Hole Used in Raspberry Pi Camera)
pins: 1

## NPN_2SC4617TLQ
designator Q?, comment 2SC4617TLQ
TRANS NPN 50V 0.15A SOT-416; Manufacturer: Rohm; hFE Min: 120; Max Power Dissipation: 150mW; Max Collector Current: 150mA; Transition Frequency: 180MHz; Collector Base Voltage (VCBO): 60V; Emitter Base Voltage (VEBO): 7V; Element Configuration: Single; Type: General Purpose; Supplier 1: Digi-Key; Manufacturer Part Number: 2SC4617TLQ; RoHS: Yes; Category: BJTs; Stock 1: 424300; Pricing 1: 1=0.36000, 10=0.29600, 100=0.15710, 500=0.10336, 1000=0.07028 (USD); Mount: Surface Mount; Case/Package: SOT-416; Number of Pins: 3; Contact Plating: Copper,Tin,Silver; Min Operating Temperature: -55°C; Max Operating Temperature: 150°C; Package Quantity: 3000; Collector Emitter Voltage (VCEO): 50V; Packaging: Tape and Reel; Collector Emitter Breakdown Voltage: 50V; Max Breakdown Voltage: 50V; Polarity: NPN; Continuous Collector Current: 150mA; Gain Bandwidth Product: 180MHz; Voltage Rating (DC): 50V; Current Rating: 150mA; Radiation Hardening: No; REACH SVHC: No SVHC; Lead Free: Lead Free; RoHS Compliant: Yes; ComponentLink1URL: https://datasheet.ciiva.com/1194/2sc2412k-1194814.pdf?src-supplier=Element14; ComponentLink1Description: https://datasheet.ciiva.com/1194/2sc2412k-1194814.pdf?src-supplier=Element14; ComponentLink2URL: https://datasheet.ciiva.com/1216/2sc2412k-1216364.pdf?src-supplier=Farnell; ComponentLink2Description: https://datasheet.ciiva.com/1216/2sc2412k-1216364.pdf?src-supplier=Farnell; ComponentLink3URL: https://datasheet.ciiva.com/11197/2sc2412k-11197549.pdf?src-supplier=Avnet; ComponentLink3Description: https://datasheet.ciiva.com/11197/2sc2412k-11197549.pdf?src-supplier=Avnet; ComponentLink4URL: https://datasheet.ciiva.com/6362/2sc2412k-6362150.pdf?src-supplier=Digi-Key; ComponentLink4Description: https://datasheet.ciiva.com/6362/2sc2412k-6362150.pdf?src-supplier=Digi-Key; ComponentLink5URL: https://datasheet.ciiva.com/6362/2sc2412k-6362153.pdf?src-supplier=Digi-Key; ComponentLink5Description: https://datasheet.ciiva.com/6362/2sc2412k-6362153.pdf?src-supplier=Digi-Key; ComponentLink6URL: https://datasheet.ciiva.com/16292/2sc2412k-208972-16292154.pdf?src-supplier=Mouser; ComponentLink6Description: https://datasheet.ciiva.com/16292/2sc2412k-208972-16292154.pdf?src-supplier=Mouser; Supplier Part Number 1: 2SC4617TLQCT-ND
footprint SOT-416FL
pins: 1 B, 2 E, 3 C

## NPN_DTC043ZEBTL
designator Q?, comment DTC043ZEBTL
TRANS PREBIAS NPN 50V EMT3F; Manufacturer: Rohm; Element Configuration: Single; Max Collector Current: 100mA; Collector Emitter Voltage (VCEO): 150mV; Transition Frequency: 250MHz; Max Power Dissipation: 150mW; Output Voltage: 50mV; Supplier 1: Digi-Key; Manufacturer Part Number: DTC043ZEBTL; RoHS: Yes; Category: BJTs; Stock 1: 30702; Pricing 1: 1=0.20000, 10=0.18100, 100=0.09850, 500=0.06064, 1000=0.04134 (USD); Mount: Surface Mount; Number of Pins: 3; Min Operating Temperature: -55°C; Max Operating Temperature: 150°C; Packaging: Tape and Reel; Collector Emitter Breakdown Voltage: 50V; Max Breakdown Voltage: 50V; Polarity: NPN; Max Frequency: 250MHz; Continuous Collector Current: 100mA; Package Quantity: 3000; Series: -; Collector-emitter Voltage-Max: 150mV; Radiation Hardening: No; Lead Free: Lead Free; RoHS Compliant: Yes; ComponentLink1URL: http://www.mouser.com/ds/2/348/tc043zebtl-e-1019210.pdf?src-supplier=Mouser; ComponentLink1Description: http://www.mouser.com/ds/2/348/tc043zebtl-e-1019210.pdf?src-supplier=Mouser; ComponentLink2URL: http://www.farnell.com/datasheets/2644341.pdf?src-supplier=Newark; ComponentLink2Description: http://www.farnell.com/datasheets/2644341.pdf?src-supplier=Newark; ComponentLink3URL: http://avnetexpress.avnet.com/store/em/EMController/Digital-BJT/Rohm-Semiconductor/DTC043ZEBTL/_/R-16023578/A-16023578/rohmfs.rohm.com/en/products/databook/datasheet/discrete/transistor/digital/dtc043zeb.pdf?src-supplier=Avnet; ComponentLink3Description: http://avnetexpress.avnet.com/store/em/EMController/Digital-BJT/Rohm-Semiconductor/DTC043ZEBTL/_/R-16023578/A-16023578/rohmfs.rohm.com/en/products/databook/datasheet/discrete/transistor/digital/dtc043zeb.pdf?src-supplier=Avnet; ComponentLink4URL: http://rohmfs.rohm.com/en/products/databook/datasheet/discrete/transistor/digital/dtc043zmt2l-e.pdf?src-supplier=Digi-Key; ComponentLink4Description: http://rohmfs.rohm.com/en/products/databook/datasheet/discrete/transistor/digital/dtc043zmt2l-e.pdf?src-supplier=Digi-Key; ComponentLink5URL: http://rohmfs.rohm.com/en/techdata_basic/transistor/taping/EMT3_TL_taping.pdf?src-supplier=Digi-Key; ComponentLink5Description: http://rohmfs.rohm.com/en/techdata_basic/transistor/taping/EMT3_TL_taping.pdf?src-supplier=Digi-Key; Supplier Part Number 1: DTC043ZEBTLCT-ND
footprint SOT-416FL
pins: 1 B, 2 E, 3 C

## NPN_MMBT3904,215
designator Q?, comment MMBT3904,215
TRANS NPN 40V 0.2A SOT23; Manufacturer: Nexperia; Supplier 1: Digi-Key; Manufacturer Part Number: MMBT3904,215; RoHS: Yes; Category: BJTs; Stock 1: 1634308; Pricing 1: 1=0.13000, 10=0.11800, 100=0.06440, 500=0.03964, 1000=0.02703 (USD); RoHS Compliant: Yes; ComponentLink1URL: http://www.farnell.com/datasheets/2328888.pdf?src-supplier=Farnell; ComponentLink1Description: http://www.farnell.com/datasheets/2328888.pdf?src-supplier=Farnell; ComponentLink2URL: https://assets.nexperia.com/documents/data-sheet/MMBT3904.pdf?src-supplier=Digi-Key; ComponentLink2Description: https://assets.nexperia.com/documents/data-sheet/MMBT3904.pdf?src-supplier=Digi-Key; ComponentLink3URL: http://www.farnell.com/datasheets/2328888.pdf?src-supplier=Newark; ComponentLink3Description: http://www.farnell.com/datasheets/2328888.pdf?src-supplier=Newark; Supplier Part Number 1: 1727-4044-1-ND
footprint SOT-23
pins: 1 B, 2 E, 3 C

## NRF52840-CKAA-R7
designator U?
Advanced Bluetooth 5, Thread and Zigbee multiprotocol SoC; Manufacturer: Nordic Semiconductor; Supplier 1: Mouser; Manufacturer Part Number: NRF52840-CKAA-R7; RoHS: Yes; Category: RF Receivers, Transceivers; Pricing 1: 1=6.69000, 10=6.04000, 50=5.76000, 100=5.00000, 1000=5.00000, 10000=5.00000 (USD); Supplier Part Number 1: 949-NRF52840-CKAA-R7
footprint BGA94C35P10X10_354X361X51
pins: A1 XC1, A2 XC2, A3 P1.11, A4 P1.13, A5 P0.03_AIN1, A6 P0.28_AIN4, A7 P0.30_AIN6, A8 DEC4, A9 DCC, A10 DEC1, B3 VDD_1, B4 P1.10, B5 P1.14, B6 P0.02_AIN0, B7 VSS_1, B8 VDD_2, B9 P0.00_XL1, B10 P0.01_XL2, C1 VSS_PA, C2 DEC6, C4 VSS_2, C5 P1.12, C6 P1.15, C7 P0.29_AIN5, C8 P0.31_AIN7, C9 P0.26, C10 P0.04_AIN2, D3 VSS_3, D4 VSS_4, D5 VSS_5, D6 VSS_6, D7 VSS_7, D8 VSS_8, D9 P0.27, D10 P0.05_AIN3, E1 ANT, E2 P0.10_NFC2, E3 P1.06, E4 VSS_9, E5 VSS_10, E6 VSS_11, E7 VSS_12, E8 VSS_13, E9 P0.06, E10 P0.08, F1 P0.09_NFC1, F2 DEC5, F3 P1.03, F4 VSS_14, F5 VSS_15, F6 VSS_16, F7 VSS_17, F8 VSS_18, F9 P0.07_TRACECLK, F10 P1.09_TRACEDATA3, G1 P1.07, G2 P1.05, G3 P1.02, G4 VSS_19, G5 VSS_20, G6 VSS_21, G7 VSS_22, G8 VSS_23, G9 P1.08, G10 P0.12_TRACEDATA1, H1 P1.04, H2 SWDCLK, H4 P0.24, H5 P0.23, H6 P0.16, H7 P0.13, H8 P0.11_TRACEDATA2, H9 DCCH, H10 VDD_3, J1 P1.01, J2 SWDIO, J3 P1.00_TRACEDATA0, J4 P0.21, J5 P0.20, J6 P0.17, J7 P0.14, J8 D-, J9 VBUS, J10 VDDH, K1 VDD_4, K2 P0.25, K3 P0.22, K4 P0.19, K5 VDD_5, K6 P0.18_NRESET, K7 P0.15, K8 D+, K9 DECUSB, K10 VSS_24

## PCF8523TK/1,118
designator U?
PCF8523 Series 5.5 V 1 Mbps I2C Interface Real Time Clock / Calendar - HVSON-8; Manufacturer: NXP Semiconductors; Max Supply Voltage: 5.5V; Min Supply Voltage: 1.2V; Time Format: HH:MM:SS; Supplier 1: Digi-Key; Manufacturer Part Number: PCF8523TK/1,118; RoHS: Yes; Category: Real Time Clocks; Stock 1: 85182; Pricing 1: 1=1.91000, 10=1.71600, 25=1.61920, 100=1.37950, 250=1.29528, 500=1.13336, 1000=1.02389 (USD); Mount: Surface Mount; Case/Package: HVSON; Number of Pins: 8; Min Operating Temperature: -40°C; Max Operating Temperature: 85°C; Packaging: Tape and Reel; Interface: I2C; Package Quantity: 6000; Logic Function: Clock; Supply Voltage-Nom: 5.5V; Radiation Hardening: No; REACH SVHC: No SVHC; Lead Free: Lead Free; Temperature Grade: INDUSTRIAL; RoHS Compliant: Yes; ComponentLink1URL: https://datasheet.ciiva.com/1238/pcf8523-1238777.pdf?src-supplier=Digi-Key; ComponentLink1Description: https://datasheet.ciiva.com/1238/pcf8523-1238777.pdf?src-supplier=Digi-Key; ComponentLink2URL: https://datasheet.ciiva.com/1238/pcf8523-1238778.pdf?src-supplier=Digi-Key; ComponentLink2Description: https://datasheet.ciiva.com/1238/pcf8523-1238778.pdf?src-supplier=Digi-Key; ComponentLink3URL: https://datasheet.ciiva.com/1238/pcf8523-1238779.pdf?src-supplier=Digi-Key; ComponentLink3Description: https://datasheet.ciiva.com/1238/pcf8523-1238779.pdf?src-supplier=Digi-Key; ComponentLink4URL: https://datasheet.ciiva.com/8144/pcf8523-8144533.pdf?src-supplier=Avnet; ComponentLink4Description: https://datasheet.ciiva.com/8144/pcf8523-8144533.pdf?src-supplier=Avnet; ComponentLink5URL: https://datasheet.ciiva.com/16355/pcf8523-16355845.pdf?src-supplier=Future+Electronics; ComponentLink5Description: https://datasheet.ciiva.com/16355/pcf8523-16355845.pdf?src-supplier=Future+Electronics; Supplier Part Number 1: 568-6648-1-ND
footprint HVSON80P400X400X100-9N
pins: 1 OSCI, 2 OSCO, 3 VBAT, 4 VSS, 5 SDA, 6 SCL, 7 INT~{1}/CLKOUT, 8 VDD, 9 EPAD

## PNP_MMBT3906,215
designator Q?, comment MMBT3906,215
TRANS PNP 40V 0.2A TO236AB; Manufacturer: Nexperia; Supplier 1: Digi-Key; Manufacturer Part Number: MMBT3906,215; RoHS: Yes; Category: BJTs; Stock 1: 1789; Pricing 1: 1=0.14000, 10=0.12800, 100=0.06970, 500=0.04290, 1000=0.02926 (USD); RoHS Compliant: Yes; ComponentLink1URL: http://www.farnell.com/datasheets/454048.pdf?src-supplier=Farnell; ComponentLink1Description: http://www.farnell.com/datasheets/454048.pdf?src-supplier=Farnell; ComponentLink2URL: https://assets.nexperia.com/documents/data-sheet/MMBT3906.pdf?src-supplier=Digi-Key; ComponentLink2Description: https://assets.nexperia.com/documents/data-sheet/MMBT3906.pdf?src-supplier=Digi-Key; ComponentLink3URL: http://www.nxp.com/packings/SOT23_215.html?src-supplier=Farnell; ComponentLink3Description: http://www.nxp.com/packings/SOT23_215.html?src-supplier=Farnell; Supplier Part Number 1: 1727-4045-1-ND
footprint SOT-23
pins: 1 B, 2 E, 3 C